# Altium schematic symbol library SCH - LOGIC - SN74LVC1G11DCKR.SchLib: 1 symbol
Pins are listed as number, name and electrical type; pins without a type are passive.

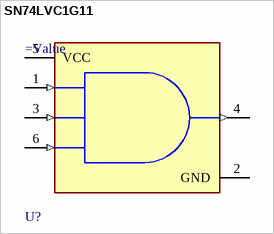
[diagram p0: symbol SN74LVC1G11]

## SN74LVC1G11
designator U?
IC GATE AND 1CH 3-INP SC70-6
pins: 1 A (in), 2 GND (power), 3 B (in), 4 Y (out), 5 VCC (power), 6 C (in)